# Altium integrated library Microchip Power Management CPU-System Supervisor.IntLib: 428 symbols (part 1 of 12)
Pins are listed as number, name and electrical type; pins without a type are passive.

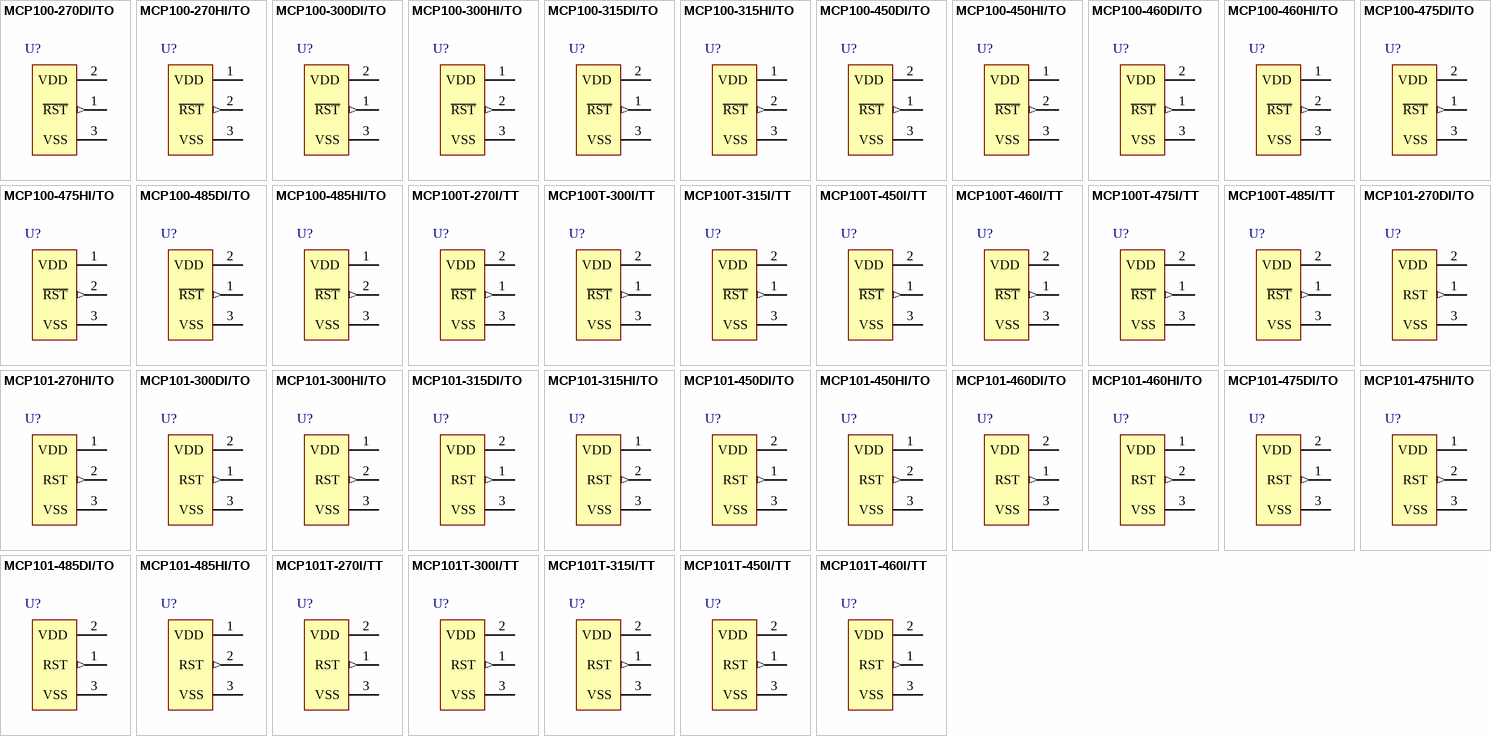
[diagram p0: symbols MCP100-270DI/TO to MCP101T-460I/TT]

## MCP100-270DI/TO
designator U?
Microcontroller Supervisory Circuit with Push-Pull Output, 3-Pin TO-92, Industrial Temperature; Manufacturer: Microchip; PartNumber: MCP100-270DI/TO; DatasheetVersion: revF, 2001; PackageVersion: revBB, Aug-2009; PackageReference: TO-92-TO3; PackageDescription: 3-Lead Plastic Transistor Outline (TO) [TO-92]; Supplier 1: Digi-Key; Supplier Part Number 1: MCP100-270DI/TO-ND; Supplier 2: Newark; Supplier Part Number 2: 19C7123; Supplier 3: Mouser; Supplier Part Number 3: 579-MCP100-270DI/TO; Mounting Technology: Through Hole; ComponentLink1Description: Manufacturer URL; ComponentLink1URL: http://www.microchip.com/; ComponentLink2Description: Datasheet; ComponentLink2URL: http://ww1.microchip.com/downloads/en/DeviceDoc/11187f.pdf; ComponentLink3Description: Package Specification; ComponentLink3URL: http://www.microchip.com/stellent/groups/techpub_sg/documents/packagingspec/en012702.pdf
footprint TO-92-TO3 (TO, Flat Index; 3 In-Line, Axial Leads; Body Dia. 4.8mm; Leads 0.56 x 0.53 mm (max))
pins: 1 ~{RST} (out), 2 VDD (power), 3 VSS (power)

## MCP100-270HI/TO
designator U?
Microcontroller Supervisory Circuit with Push-Pull Output, 3-Pin TO-92, Industrial Temperature; Manufacturer: Microchip; PartNumber: MCP100-270HI/TO; DatasheetVersion: revF, 2001; PackageVersion: revBB, Aug-2009; PackageReference: TO-92-TO3; PackageDescription: 3-Lead Plastic Transistor Outline (TO) [TO-92]; Supplier 1: Digi-Key; Supplier Part Number 1: MCP100-270HI/TO-ND; Supplier 2: Mouser; Supplier Part Number 2: 579-MCP100-270HI/TO; Mounting Technology: Through Hole; ComponentLink1Description: Manufacturer URL; ComponentLink1URL: http://www.microchip.com/; ComponentLink2Description: Datasheet; ComponentLink2URL: http://ww1.microchip.com/downloads/en/DeviceDoc/11187f.pdf; ComponentLink3Description: Package Specification; ComponentLink3URL: http://www.microchip.com/stellent/groups/techpub_sg/documents/packagingspec/en012702.pdf
footprint TO-92-TO3 (TO, Flat Index; 3 In-Line, Axial Leads; Body Dia. 4.8mm; Leads 0.56 x 0.53 mm (max))
pins: 1 VDD (power), 2 ~{RST} (out), 3 VSS (power)

## MCP100-300DI/TO
designator U?
Microcontroller Supervisory Circuit with Push-Pull Output, 3-Pin TO-92, Industrial Temperature; Manufacturer: Microchip; PartNumber: MCP100-300DI/TO; DatasheetVersion: revF, 2001; PackageVersion: revBB, Aug-2009; PackageReference: TO-92-TO3; PackageDescription: 3-Lead Plastic Transistor Outline (TO) [TO-92]; Supplier 1: Digi-Key; Supplier Part Number 1: MCP100-300DI/TO-ND; Supplier 2: Farnell; Supplier Part Number 2: 1332051; Supplier 3: Newark; Supplier Part Number 3: 19C7124; Supplier 4: Mouser; Supplier Part Number 4: 579-MCP100-300DI/TO; Mounting Technology: Through Hole; ComponentLink1Description: Manufacturer URL; ComponentLink1URL: http://www.microchip.com/; ComponentLink2Description: Datasheet; ComponentLink2URL: http://ww1.microchip.com/downloads/en/DeviceDoc/11187f.pdf; ComponentLink3Description: Package Specification; ComponentLink3URL: http://www.microchip.com/stellent/groups/techpub_sg/documents/packagingspec/en012702.pdf
footprint TO-92-TO3 (TO, Flat Index; 3 In-Line, Axial Leads; Body Dia. 4.8mm; Leads 0.56 x 0.53 mm (max))
pins: 1 ~{RST} (out), 2 VDD (power), 3 VSS (power)

## MCP100-300HI/TO
designator U?
Microcontroller Supervisory Circuit with Push-Pull Output, 3-Pin TO-92, Industrial Temperature; Manufacturer: Microchip; PartNumber: MCP100-300HI/TO; DatasheetVersion: revF, 2001; PackageVersion: revBB, Aug-2009; PackageReference: TO-92-TO3; PackageDescription: 3-Lead Plastic Transistor Outline (TO) [TO-92]; Supplier 1: Digi-Key; Supplier Part Number 1: MCP100-300HI/TO-ND; Supplier 2: Mouser; Supplier Part Number 2: 579-MCP100-300HI/TO; Mounting Technology: Through Hole; ComponentLink1Description: Manufacturer URL; ComponentLink1URL: http://www.microchip.com/; ComponentLink2Description: Datasheet; ComponentLink2URL: http://ww1.microchip.com/downloads/en/DeviceDoc/11187f.pdf; ComponentLink3Description: Package Specification; ComponentLink3URL: http://www.microchip.com/stellent/groups/techpub_sg/documents/packagingspec/en012702.pdf
footprint TO-92-TO3 (TO, Flat Index; 3 In-Line, Axial Leads; Body Dia. 4.8mm; Leads 0.56 x 0.53 mm (max))
pins: 1 VDD (power), 2 ~{RST} (out), 3 VSS (power)

## MCP100-315DI/TO
designator U?
Microcontroller Supervisory Circuit with Push-Pull Output, 3-Pin TO-92, Industrial Temperature; Manufacturer: Microchip; PartNumber: MCP100-315DI/TO; DatasheetVersion: revF, 2001; PackageVersion: revBB, Aug-2009; PackageReference: TO-92-TO3; PackageDescription: 3-Lead Plastic Transistor Outline (TO) [TO-92]; Supplier 1: Digi-Key; Supplier Part Number 1: MCP100-315DI/TO-ND; Supplier 2: Farnell; Supplier Part Number 2: 1212673; Supplier 3: Newark; Supplier Part Number 3: 19C7125; Supplier 4: Mouser; Supplier Part Number 4: 579-MCP100-315DI/TO; Mounting Technology: Through Hole; ComponentLink1Description: Manufacturer URL; ComponentLink1URL: http://www.microchip.com/; ComponentLink2Description: Datasheet; ComponentLink2URL: http://ww1.microchip.com/downloads/en/DeviceDoc/11187f.pdf; ComponentLink3Description: Package Specification; ComponentLink3URL: http://www.microchip.com/stellent/groups/techpub_sg/documents/packagingspec/en012702.pdf
footprint TO-92-TO3 (TO, Flat Index; 3 In-Line, Axial Leads; Body Dia. 4.8mm; Leads 0.56 x 0.53 mm (max))
pins: 1 ~{RST} (out), 2 VDD (power), 3 VSS (power)

## MCP100-315HI/TO
designator U?
Microcontroller Supervisory Circuit with Push-Pull Output, 3-Pin TO-92, Industrial Temperature; Manufacturer: Microchip; PartNumber: MCP100-315HI/TO; DatasheetVersion: revF, 2001; PackageVersion: revBB, Aug-2009; PackageReference: TO-92-TO3; PackageDescription: 3-Lead Plastic Transistor Outline (TO) [TO-92]; Supplier 1: Digi-Key; Supplier Part Number 1: MCP100-315HI/TO-ND; Supplier 2: Mouser; Supplier Part Number 2: 579-MCP100-315HI/TO; Mounting Technology: Through Hole; ComponentLink1Description: Manufacturer URL; ComponentLink1URL: http://www.microchip.com/; ComponentLink2Description: Datasheet; ComponentLink2URL: http://ww1.microchip.com/downloads/en/DeviceDoc/11187f.pdf; ComponentLink3Description: Package Specification; ComponentLink3URL: http://www.microchip.com/stellent/groups/techpub_sg/documents/packagingspec/en012702.pdf
footprint TO-92-TO3 (TO, Flat Index; 3 In-Line, Axial Leads; Body Dia. 4.8mm; Leads 0.56 x 0.53 mm (max))
pins: 1 VDD (power), 2 ~{RST} (out), 3 VSS (power)

## MCP100-450DI/TO
designator U?
Microcontroller Supervisory Circuit with Push-Pull Output, 3-Pin TO-92, Industrial Temperature; Manufacturer: Microchip; PartNumber: MCP100-450DI/TO; DatasheetVersion: revF, 2001; PackageVersion: revBB, Aug-2009; PackageReference: TO-92-TO3; PackageDescription: 3-Lead Plastic Transistor Outline (TO) [TO-92]; Supplier 1: Digi-Key; Supplier Part Number 1: MCP100-450DI/TO-ND; Supplier 2: Farnell; Supplier Part Number 2: 9758330; Supplier 3: Newark; Supplier Part Number 3: 97K4461; Supplier 4: Newark; Supplier Part Number 4: 19C7126; Supplier 5: Mouser; Supplier Part Number 5: 579-MCP100-450DI/TO; Mounting Technology: Through Hole; ComponentLink1Description: Manufacturer URL; ComponentLink1URL: http://www.microchip.com/; ComponentLink2Description: Datasheet; ComponentLink2URL: http://ww1.microchip.com/downloads/en/DeviceDoc/11187f.pdf; ComponentLink3Description: Package Specification; ComponentLink3URL: http://www.microchip.com/stellent/groups/techpub_sg/documents/packagingspec/en012702.pdf
footprint TO-92-TO3 (TO, Flat Index; 3 In-Line, Axial Leads; Body Dia. 4.8mm; Leads 0.56 x 0.53 mm (max))
pins: 1 ~{RST} (out), 2 VDD (power), 3 VSS (power)

## MCP100-450HI/TO
designator U?
Microcontroller Supervisory Circuit with Push-Pull Output, 3-Pin TO-92, Industrial Temperature; Manufacturer: Microchip; PartNumber: MCP100-450HI/TO; DatasheetVersion: revF, 2001; PackageVersion: revBB, Aug-2009; PackageReference: TO-92-TO3; PackageDescription: 3-Lead Plastic Transistor Outline (TO) [TO-92]; Supplier 1: Digi-Key; Supplier Part Number 1: MCP100-450HI/TO-ND; Supplier 2: Farnell; Supplier Part Number 2: 9758348; Supplier 3: Newark; Supplier Part Number 3: 97K4462; Supplier 4: Mouser; Supplier Part Number 4: 579-MCP100-450HI/TO; Mounting Technology: Through Hole; ComponentLink1Description: Manufacturer URL; ComponentLink1URL: http://www.microchip.com/; ComponentLink2Description: Datasheet; ComponentLink2URL: http://ww1.microchip.com/downloads/en/DeviceDoc/11187f.pdf; ComponentLink3Description: Package Specification; ComponentLink3URL: http://www.microchip.com/stellent/groups/techpub_sg/documents/packagingspec/en012702.pdf
footprint TO-92-TO3 (TO, Flat Index; 3 In-Line, Axial Leads; Body Dia. 4.8mm; Leads 0.56 x 0.53 mm (max))
pins: 1 VDD (power), 2 ~{RST} (out), 3 VSS (power)

## MCP100-460DI/TO
designator U?
Microcontroller Supervisory Circuit with Push-Pull Output, 3-Pin TO-92, Industrial Temperature; Manufacturer: Microchip; PartNumber: MCP100-460DI/TO; DatasheetVersion: revF, 2001; PackageVersion: revBB, Aug-2009; PackageReference: TO-92-TO3; PackageDescription: 3-Lead Plastic Transistor Outline (TO) [TO-92]; Supplier 1: Digi-Key; Supplier Part Number 1: MCP100-460DI/TO-ND; Supplier 2: Farnell; Supplier Part Number 2: 1863900; Supplier 3: Newark; Supplier Part Number 3: 96K3687; Supplier 4: Mouser; Supplier Part Number 4: 579-MCP100-460DI/TO; Mounting Technology: Through Hole; ComponentLink1Description: Manufacturer URL; ComponentLink1URL: http://www.microchip.com/; ComponentLink2Description: Datasheet; ComponentLink2URL: http://ww1.microchip.com/downloads/en/DeviceDoc/11187f.pdf; ComponentLink3Description: Package Specification; ComponentLink3URL: http://www.microchip.com/stellent/groups/techpub_sg/documents/packagingspec/en012702.pdf
footprint TO-92-TO3 (TO, Flat Index; 3 In-Line, Axial Leads; Body Dia. 4.8mm; Leads 0.56 x 0.53 mm (max))
pins: 1 ~{RST} (out), 2 VDD (power), 3 VSS (power)

## MCP100-460HI/TO
designator U?
Microcontroller Supervisory Circuit with Push-Pull Output, 3-Pin TO-92, Industrial Temperature; Manufacturer: Microchip; PartNumber: MCP100-460HI/TO; DatasheetVersion: revF, 2001; PackageVersion: revBB, Aug-2009; PackageReference: TO-92-TO3; PackageDescription: 3-Lead Plastic Transistor Outline (TO) [TO-92]; Supplier 1: Digi-Key; Supplier Part Number 1: MCP100-460HI/TO-ND; Supplier 2: Mouser; Supplier Part Number 2: 579-MCP100-460HI/TO; Mounting Technology: Through Hole; ComponentLink1Description: Manufacturer URL; ComponentLink1URL: http://www.microchip.com/; ComponentLink2Description: Datasheet; ComponentLink2URL: http://ww1.microchip.com/downloads/en/DeviceDoc/11187f.pdf; ComponentLink3Description: Package Specification; ComponentLink3URL: http://www.microchip.com/stellent/groups/techpub_sg/documents/packagingspec/en012702.pdf
footprint TO-92-TO3 (TO, Flat Index; 3 In-Line, Axial Leads; Body Dia. 4.8mm; Leads 0.56 x 0.53 mm (max))
pins: 1 VDD (power), 2 ~{RST} (out), 3 VSS (power)

## MCP100-475DI/TO
designator U?
Microcontroller Supervisory Circuit with Push-Pull Output, 3-Pin TO-92, Industrial Temperature; Manufacturer: Microchip; PartNumber: MCP100-475DI/TO; DatasheetVersion: revF, 2001; PackageVersion: revBB, Aug-2009; PackageReference: TO-92-TO3; PackageDescription: 3-Lead Plastic Transistor Outline (TO) [TO-92]; Supplier 1: Digi-Key; Supplier Part Number 1: MCP100-475DI/TO-ND; Supplier 2: Farnell; Supplier Part Number 2: 1084253; Supplier 3: Newark; Supplier Part Number 3: 19C7127; Supplier 4: Mouser; Supplier Part Number 4: 579-MCP100-475DI/TO; Mounting Technology: Through Hole; ComponentLink1Description: Manufacturer URL; ComponentLink1URL: http://www.microchip.com/; ComponentLink2Description: Datasheet; ComponentLink2URL: http://ww1.microchip.com/downloads/en/DeviceDoc/11187f.pdf; ComponentLink3Description: Package Specification; ComponentLink3URL: http://www.microchip.com/stellent/groups/techpub_sg/documents/packagingspec/en012702.pdf
footprint TO-92-TO3 (TO, Flat Index; 3 In-Line, Axial Leads; Body Dia. 4.8mm; Leads 0.56 x 0.53 mm (max))
pins: 1 ~{RST} (out), 2 VDD (power), 3 VSS (power)

## MCP100-475HI/TO
designator U?
Microcontroller Supervisory Circuit with Push-Pull Output, 3-Pin TO-92, Industrial Temperature; Manufacturer: Microchip; PartNumber: MCP100-475HI/TO; DatasheetVersion: revF, 2001; PackageVersion: revBB, Aug-2009; PackageReference: TO-92-TO3; PackageDescription: 3-Lead Plastic Transistor Outline (TO) [TO-92]; Supplier 1: Digi-Key; Supplier Part Number 1: MCP100-475HI/TO-ND; Supplier 2: Farnell; Supplier Part Number 2: 9758356; Supplier 3: Newark; Supplier Part Number 3: 97K4464; Supplier 4: Mouser; Supplier Part Number 4: 579-MCP100-475HI/TO; Mounting Technology: Through Hole; ComponentLink1Description: Manufacturer URL; ComponentLink1URL: http://www.microchip.com/; ComponentLink2Description: Datasheet; ComponentLink2URL: http://ww1.microchip.com/downloads/en/DeviceDoc/11187f.pdf; ComponentLink3Description: Package Specification; ComponentLink3URL: http://www.microchip.com/stellent/groups/techpub_sg/documents/packagingspec/en012702.pdf
footprint TO-92-TO3 (TO, Flat Index; 3 In-Line, Axial Leads; Body Dia. 4.8mm; Leads 0.56 x 0.53 mm (max))
pins: 1 VDD (power), 2 ~{RST} (out), 3 VSS (power)

## MCP100-485DI/TO
designator U?
Microcontroller Supervisory Circuit with Push-Pull Output, 3-Pin TO-92, Industrial Temperature; Manufacturer: Microchip; PartNumber: MCP100-485DI/TO; DatasheetVersion: revF, 2001; PackageVersion: revBB, Aug-2009; PackageReference: TO-92-TO3; PackageDescription: 3-Lead Plastic Transistor Outline (TO) [TO-92]; Supplier 1: Digi-Key; Supplier Part Number 1: MCP100-485DI/TO-ND; Supplier 2: Farnell; Supplier Part Number 2: 1863901; Supplier 3: Newark; Supplier Part Number 3: 23C2761; Supplier 4: Mouser; Supplier Part Number 4: 579-MCP100-485DI/TO; Mounting Technology: Through Hole; ComponentLink1Description: Manufacturer URL; ComponentLink1URL: http://www.microchip.com/; ComponentLink2Description: Datasheet; ComponentLink2URL: http://ww1.microchip.com/downloads/en/DeviceDoc/11187f.pdf; ComponentLink3Description: Package Specification; ComponentLink3URL: http://www.microchip.com/stellent/groups/techpub_sg/documents/packagingspec/en012702.pdf
footprint TO-92-TO3 (TO, Flat Index; 3 In-Line, Axial Leads; Body Dia. 4.8mm; Leads 0.56 x 0.53 mm (max))
pins: 1 ~{RST} (out), 2 VDD (power), 3 VSS (power)

## MCP100-485HI/TO
designator U?
Microcontroller Supervisory Circuit with Push-Pull Output, 3-Pin TO-92, Industrial Temperature; Manufacturer: Microchip; PartNumber: MCP100-485HI/TO; DatasheetVersion: revF, 2001; PackageVersion: revBB, Aug-2009; PackageReference: TO-92-TO3; PackageDescription: 3-Lead Plastic Transistor Outline (TO) [TO-92]; Supplier 1: Digi-Key; Supplier Part Number 1: MCP100-485HI/TO-ND; Supplier 2: Mouser; Supplier Part Number 2: 579-MCP100-485HI/TO; Mounting Technology: Through Hole; ComponentLink1Description: Manufacturer URL; ComponentLink1URL: http://www.microchip.com/; ComponentLink2Description: Datasheet; ComponentLink2URL: http://ww1.microchip.com/downloads/en/DeviceDoc/11187f.pdf; ComponentLink3Description: Package Specification; ComponentLink3URL: http://www.microchip.com/stellent/groups/techpub_sg/documents/packagingspec/en012702.pdf
footprint TO-92-TO3 (TO, Flat Index; 3 In-Line, Axial Leads; Body Dia. 4.8mm; Leads 0.56 x 0.53 mm (max))
pins: 1 VDD (power), 2 ~{RST} (out), 3 VSS (power)

## MCP100T-270I/TT
designator U?
Microcontroller Supervisory Circuit with Push-Pull Output, 3-Pin SOT-23, Industrial Temperature, Tape and Reel; Manufacturer: Microchip; PartNumber: MCP100T-270I/TT; DatasheetVersion: revF, 2001; PackageVersion: revBB, Aug-2009; PackageReference: SOT-23-TT3; PackageDescription: 3-Lead Plastic Small Outline Transistor (TT) [SOT-23]; Supplier 1: Digi-Key; Supplier Part Number 1: MCP100T-270I/TTTR-ND; Supplier 2: Digi-Key; Supplier Part Number 2: MCP100T-270I/TTCT-ND; Supplier 3: Digi-Key; Supplier Part Number 3: MCP100T-270I/TTDKR-ND; Supplier 4: Farnell; Supplier Part Number 4: 1851859RL; Supplier 5: Farnell; Supplier Part Number 5: 1851859; Supplier 6: Newark; Supplier Part Number 6: 74K5373; Supplier 7: Mouser; Supplier Part Number 7: 579-MCP100T-270I/TT; Mounting Technology: Surface Mount; Code_IPC: SOT23-3; ComponentLink1Description: Manufacturer URL; ComponentLink1URL: http://www.microchip.com/; ComponentLink2Description: Datasheet; ComponentLink2URL: http://ww1.microchip.com/downloads/en/DeviceDoc/11187f.pdf; ComponentLink3Description: Package Specification; ComponentLink3URL: http://www.microchip.com/stellent/groups/techpub_sg/documents/packagingspec/en012702.pdf
footprint SOT-23-TT3_N (SOT23, 3-Leads, Body 2.9x1.3mm, Pitch 0.95mm, Lead Span 2.4mm, IPC Medium Density)
footprint SOT-23-TT3_L (SOT23, 3-Leads, Body 2.9x1.3mm, Pitch 0.95mm, Lead Span 2.4mm, IPC High Density)
footprint SOT-23-TT3_M (SOT23, 3-Leads, Body 2.9x1.3mm, Pitch 0.95mm, Lead Span 2.4mm, IPC Low Density)
pins: 1 ~{RST} (out), 2 VDD (power), 3 VSS (power)

## MCP100T-300I/TT
designator U?
Microcontroller Supervisory Circuit with Push-Pull Output, 3-Pin SOT-23, Industrial Temperature, Tape and Reel; Manufacturer: Microchip; PartNumber: MCP100T-300I/TT; DatasheetVersion: revF, 2001; PackageVersion: revBB, Aug-2009; PackageReference: SOT-23-TT3; PackageDescription: 3-Lead Plastic Small Outline Transistor (TT) [SOT-23]; Supplier 1: Digi-Key; Supplier Part Number 1: MCP100T-300I/TTTR-ND; Supplier 2: Digi-Key; Supplier Part Number 2: MCP100T-300I/TTCT-ND; Supplier 3: Digi-Key; Supplier Part Number 3: MCP100T-300I/TTDKR-ND; Supplier 4: Farnell; Supplier Part Number 4: 9758364; Supplier 5: Farnell; Supplier Part Number 5: 9758364RL; Supplier 6: Newark; Supplier Part Number 6: 19C7129; Supplier 7: Mouser; Supplier Part Number 7: 579-MCP100T-300I/TT; Mounting Technology: Surface Mount; Code_IPC: SOT23-3; ComponentLink1Description: Manufacturer URL; ComponentLink1URL: http://www.microchip.com/; ComponentLink2Description: Datasheet; ComponentLink2URL: http://ww1.microchip.com/downloads/en/DeviceDoc/11187f.pdf; ComponentLink3Description: Package Specification; ComponentLink3URL: http://www.microchip.com/stellent/groups/techpub_sg/documents/packagingspec/en012702.pdf
footprint SOT-23-TT3_N (SOT23, 3-Leads, Body 2.9x1.3mm, Pitch 0.95mm, Lead Span 2.4mm, IPC Medium Density)
footprint SOT-23-TT3_L (SOT23, 3-Leads, Body 2.9x1.3mm, Pitch 0.95mm, Lead Span 2.4mm, IPC High Density)
footprint SOT-23-TT3_M (SOT23, 3-Leads, Body 2.9x1.3mm, Pitch 0.95mm, Lead Span 2.4mm, IPC Low Density)
pins: 1 ~{RST} (out), 2 VDD (power), 3 VSS (power)

## MCP100T-315I/TT
designator U?
Microcontroller Supervisory Circuit with Push-Pull Output, 3-Pin SOT-23, Industrial Temperature, Tape and Reel; Manufacturer: Microchip; PartNumber: MCP100T-315I/TT; DatasheetVersion: revF, 2001; PackageVersion: revBB, Aug-2009; PackageReference: SOT-23-TT3; PackageDescription: 3-Lead Plastic Small Outline Transistor (TT) [SOT-23]; Supplier 1: Digi-Key; Supplier Part Number 1: MCP100T-315I/TTTR-ND; Supplier 2: Digi-Key; Supplier Part Number 2: MCP100T-315I/TTCT-ND; Supplier 3: Digi-Key; Supplier Part Number 3: MCP100T-315I/TTDKR-ND; Supplier 4: Farnell; Supplier Part Number 4: 1084255RL; Supplier 5: Farnell; Supplier Part Number 5: 1084255; Supplier 6: Newark; Supplier Part Number 6: 97K4466; Supplier 7: Newark; Supplier Part Number 7: 19C7130; Supplier 8: Mouser; Supplier Part Number 8: 579-MCP100T-315I/TT; Mounting Technology: Surface Mount; Code_IPC: SOT23-3; ComponentLink1Description: Manufacturer URL; ComponentLink1URL: http://www.microchip.com/; ComponentLink2Description: Datasheet; ComponentLink2URL: http://ww1.microchip.com/downloads/en/DeviceDoc/11187f.pdf; ComponentLink3Description: Package Specification; ComponentLink3URL: http://www.microchip.com/stellent/groups/techpub_sg/documents/packagingspec/en012702.pdf
footprint SOT-23-TT3_N (SOT23, 3-Leads, Body 2.9x1.3mm, Pitch 0.95mm, Lead Span 2.4mm, IPC Medium Density)
footprint SOT-23-TT3_L (SOT23, 3-Leads, Body 2.9x1.3mm, Pitch 0.95mm, Lead Span 2.4mm, IPC High Density)
footprint SOT-23-TT3_M (SOT23, 3-Leads, Body 2.9x1.3mm, Pitch 0.95mm, Lead Span 2.4mm, IPC Low Density)
pins: 1 ~{RST} (out), 2 VDD (power), 3 VSS (power)

## MCP100T-450I/TT
designator U?
Microcontroller Supervisory Circuit with Push-Pull Output, 3-Pin SOT-23, Industrial Temperature, Tape and Reel; Manufacturer: Microchip; PartNumber: MCP100T-450I/TT; DatasheetVersion: revF, 2001; PackageVersion: revBB, Aug-2009; PackageReference: SOT-23-TT3; PackageDescription: 3-Lead Plastic Small Outline Transistor (TT) [SOT-23]; Supplier 1: Digi-Key; Supplier Part Number 1: MCP100T-450I/TTTR-ND; Supplier 2: Digi-Key; Supplier Part Number 2: MCP100T-450I/TTCT-ND; Supplier 3: Digi-Key; Supplier Part Number 3: MCP100T-450I/TTDKR-ND; Supplier 4: Farnell; Supplier Part Number 4: 9758372; Supplier 5: Farnell; Supplier Part Number 5: 9758372RL; Supplier 6: Newark; Supplier Part Number 6: 96K3688; Supplier 7: Mouser; Supplier Part Number 7: 579-MCP100T-450I/TT; Mounting Technology: Surface Mount; Code_IPC: SOT23-3; ComponentLink1Description: Manufacturer URL; ComponentLink1URL: http://www.microchip.com/; ComponentLink2Description: Datasheet; ComponentLink2URL: http://ww1.microchip.com/downloads/en/DeviceDoc/11187f.pdf; ComponentLink3Description: Package Specification; ComponentLink3URL: http://www.microchip.com/stellent/groups/techpub_sg/documents/packagingspec/en012702.pdf
footprint SOT-23-TT3_N (SOT23, 3-Leads, Body 2.9x1.3mm, Pitch 0.95mm, Lead Span 2.4mm, IPC Medium Density)
footprint SOT-23-TT3_L (SOT23, 3-Leads, Body 2.9x1.3mm, Pitch 0.95mm, Lead Span 2.4mm, IPC High Density)
footprint SOT-23-TT3_M (SOT23, 3-Leads, Body 2.9x1.3mm, Pitch 0.95mm, Lead Span 2.4mm, IPC Low Density)
pins: 1 ~{RST} (out), 2 VDD (power), 3 VSS (power)

## MCP100T-460I/TT
designator U?
Microcontroller Supervisory Circuit with Push-Pull Output, 3-Pin SOT-23, Industrial Temperature, Tape and Reel; Manufacturer: Microchip; PartNumber: MCP100T-460I/TT; DatasheetVersion: revF, 2001; PackageVersion: revBB, Aug-2009; PackageReference: SOT-23-TT3; PackageDescription: 3-Lead Plastic Small Outline Transistor (TT) [SOT-23]; Supplier 1: Digi-Key; Supplier Part Number 1: MCP100T-460I/TTTR-ND; Supplier 2: Digi-Key; Supplier Part Number 2: MCP100T-460I/TTCT-ND; Supplier 3: Digi-Key; Supplier Part Number 3: MCP100T-460I/TTDKR-ND; Supplier 4: Farnell; Supplier Part Number 4: 1851861; Supplier 5: Newark; Supplier Part Number 5: 23C2763; Supplier 6: Newark; Supplier Part Number 6: 31T1291; Supplier 7: Mouser; Supplier Part Number 7: 579-MCP100T-460I/TT; Mounting Technology: Surface Mount; Code_IPC: SOT23-3; ComponentLink1Description: Manufacturer URL; ComponentLink1URL: http://www.microchip.com/; ComponentLink2Description: Datasheet; ComponentLink2URL: http://ww1.microchip.com/downloads/en/DeviceDoc/11187f.pdf; ComponentLink3Description: Package Specification; ComponentLink3URL: http://www.microchip.com/stellent/groups/techpub_sg/documents/packagingspec/en012702.pdf
footprint SOT-23-TT3_N (SOT23, 3-Leads, Body 2.9x1.3mm, Pitch 0.95mm, Lead Span 2.4mm, IPC Medium Density)
footprint SOT-23-TT3_L (SOT23, 3-Leads, Body 2.9x1.3mm, Pitch 0.95mm, Lead Span 2.4mm, IPC High Density)
footprint SOT-23-TT3_M (SOT23, 3-Leads, Body 2.9x1.3mm, Pitch 0.95mm, Lead Span 2.4mm, IPC Low Density)
pins: 1 ~{RST} (out), 2 VDD (power), 3 VSS (power)

## MCP100T-475I/TT
designator U?
Microcontroller Supervisory Circuit with Push-Pull Output, 3-Pin SOT-23, Industrial Temperature, Tape and Reel; Manufacturer: Microchip; PartNumber: MCP100T-475I/TT; DatasheetVersion: revF, 2001; PackageVersion: revBB, Aug-2009; PackageReference: SOT-23-TT3; PackageDescription: 3-Lead Plastic Small Outline Transistor (TT) [SOT-23]; Supplier 1: Digi-Key; Supplier Part Number 1: MCP100T-475I/TTTR-ND; Supplier 2: Digi-Key; Supplier Part Number 2: MCP100T-475I/TTCT-ND; Supplier 3: Digi-Key; Supplier Part Number 3: MCP100T-475I/TTDKR-ND; Supplier 4: Farnell; Supplier Part Number 4: 9758380RL; Supplier 5: Farnell; Supplier Part Number 5: 9758380; Supplier 6: Newark; Supplier Part Number 6: 19C7132; Supplier 7: Mouser; Supplier Part Number 7: 579-MCP100T-475I/TT; Mounting Technology: Surface Mount; Code_IPC: SOT23-3; ComponentLink1Description: Manufacturer URL; ComponentLink1URL: http://www.microchip.com/; ComponentLink2Description: Datasheet; ComponentLink2URL: http://ww1.microchip.com/downloads/en/DeviceDoc/11187f.pdf; ComponentLink3Description: Package Specification; ComponentLink3URL: http://www.microchip.com/stellent/groups/techpub_sg/documents/packagingspec/en012702.pdf
footprint SOT-23-TT3_N (SOT23, 3-Leads, Body 2.9x1.3mm, Pitch 0.95mm, Lead Span 2.4mm, IPC Medium Density)
footprint SOT-23-TT3_L (SOT23, 3-Leads, Body 2.9x1.3mm, Pitch 0.95mm, Lead Span 2.4mm, IPC High Density)
footprint SOT-23-TT3_M (SOT23, 3-Leads, Body 2.9x1.3mm, Pitch 0.95mm, Lead Span 2.4mm, IPC Low Density)
pins: 1 ~{RST} (out), 2 VDD (power), 3 VSS (power)

## MCP100T-485I/TT
designator U?
Microcontroller Supervisory Circuit with Push-Pull Output, 3-Pin SOT-23, Industrial Temperature, Tape and Reel; Manufacturer: Microchip; PartNumber: MCP100T-485I/TT; DatasheetVersion: revF, 2001; PackageVersion: revBB, Aug-2009; PackageReference: SOT-23-TT3; PackageDescription: 3-Lead Plastic Small Outline Transistor (TT) [SOT-23]; Supplier 1: Digi-Key; Supplier Part Number 1: MCP100T-485I/TTTR-ND; Supplier 2: Digi-Key; Supplier Part Number 2: MCP100T-485I/TTCT-ND; Supplier 3: Digi-Key; Supplier Part Number 3: MCP100T-485I/TTDKR-ND; Supplier 4: Farnell; Supplier Part Number 4: 1851862; Supplier 5: Farnell; Supplier Part Number 5: 1851862RL; Supplier 6: Newark; Supplier Part Number 6: 23C2764; Supplier 7: Newark; Supplier Part Number 7: 31T1292; Supplier 8: Mouser; Supplier Part Number 8: 579-MCP100T-485I/TT; Mounting Technology: Surface Mount; Code_IPC: SOT23-3; ComponentLink1Description: Manufacturer URL; ComponentLink1URL: http://www.microchip.com/; ComponentLink2Description: Datasheet; ComponentLink2URL: http://ww1.microchip.com/downloads/en/DeviceDoc/11187f.pdf; ComponentLink3Description: Package Specification; ComponentLink3URL: http://www.microchip.com/stellent/groups/techpub_sg/documents/packagingspec/en012702.pdf
footprint SOT-23-TT3_N (SOT23, 3-Leads, Body 2.9x1.3mm, Pitch 0.95mm, Lead Span 2.4mm, IPC Medium Density)
footprint SOT-23-TT3_L (SOT23, 3-Leads, Body 2.9x1.3mm, Pitch 0.95mm, Lead Span 2.4mm, IPC High Density)
footprint SOT-23-TT3_M (SOT23, 3-Leads, Body 2.9x1.3mm, Pitch 0.95mm, Lead Span 2.4mm, IPC Low Density)
pins: 1 ~{RST} (out), 2 VDD (power), 3 VSS (power)

## MCP101-270DI/TO
designator U?
Microcontroller Supervisory Circuit with Push-Pull Output, 3-Pin TO-92, Industrial Temperature; Manufacturer: Microchip; PartNumber: MCP101-270DI/TO; DatasheetVersion: revF, 2001; PackageVersion: revBB, Aug-2009; PackageReference: TO-92-TO3; PackageDescription: 3-Lead Plastic Transistor Outline (TO) [TO-92]; Supplier 1: Digi-Key; Supplier Part Number 1: MCP101-270DI/TO-ND; Supplier 2: Farnell; Supplier Part Number 2: 1851863; Supplier 3: Newark; Supplier Part Number 3: 19C7133; Supplier 4: Mouser; Supplier Part Number 4: 579-MCP101-270DI/TO; Mounting Technology: Through Hole; ComponentLink1Description: Manufacturer URL; ComponentLink1URL: http://www.microchip.com/; ComponentLink2Description: Datasheet; ComponentLink2URL: http://ww1.microchip.com/downloads/en/DeviceDoc/11187f.pdf; ComponentLink3Description: Package Specification; ComponentLink3URL: http://www.microchip.com/stellent/groups/techpub_sg/documents/packagingspec/en012702.pdf
footprint TO-92-TO3 (TO, Flat Index; 3 In-Line, Axial Leads; Body Dia. 4.8mm; Leads 0.56 x 0.53 mm (max))
pins: 1 RST (out), 2 VDD (power), 3 VSS (power)

## MCP101-270HI/TO
designator U?
Microcontroller Supervisory Circuit with Push-Pull Output, 3-Pin TO-92, Industrial Temperature; Manufacturer: Microchip; PartNumber: MCP101-270HI/TO; DatasheetVersion: revF, 2001; PackageVersion: revBB, Aug-2009; PackageReference: TO-92-TO3; PackageDescription: 3-Lead Plastic Transistor Outline (TO) [TO-92]; Supplier 1: Digi-Key; Supplier Part Number 1: MCP101-270HI/TO-ND; Supplier 2: Mouser; Supplier Part Number 2: 579-MCP101-270HI/TO; Mounting Technology: Through Hole; ComponentLink1Description: Manufacturer URL; ComponentLink1URL: http://www.microchip.com/; ComponentLink2Description: Datasheet; ComponentLink2URL: http://ww1.microchip.com/downloads/en/DeviceDoc/11187f.pdf; ComponentLink3Description: Package Specification; ComponentLink3URL: http://www.microchip.com/stellent/groups/techpub_sg/documents/packagingspec/en012702.pdf
footprint TO-92-TO3 (TO, Flat Index; 3 In-Line, Axial Leads; Body Dia. 4.8mm; Leads 0.56 x 0.53 mm (max))
pins: 1 VDD (power), 2 RST (out), 3 VSS (power)

## MCP101-300DI/TO
designator U?
Microcontroller Supervisory Circuit with Push-Pull Output, 3-Pin TO-92, Industrial Temperature; Manufacturer: Microchip; PartNumber: MCP101-300DI/TO; DatasheetVersion: revF, 2001; PackageVersion: revBB, Aug-2009; PackageReference: TO-92-TO3; PackageDescription: 3-Lead Plastic Transistor Outline (TO) [TO-92]; Supplier 1: Digi-Key; Supplier Part Number 1: MCP101-300DI/TO-ND; Supplier 2: Farnell; Supplier Part Number 2: 1332052; Supplier 3: Newark; Supplier Part Number 3: 19C7134; Supplier 4: Mouser; Supplier Part Number 4: 579-MCP101-300DI/TO; Mounting Technology: Through Hole; ComponentLink1Description: Manufacturer URL; ComponentLink1URL: http://www.microchip.com/; ComponentLink2Description: Datasheet; ComponentLink2URL: http://ww1.microchip.com/downloads/en/DeviceDoc/11187f.pdf; ComponentLink3Description: Package Specification; ComponentLink3URL: http://www.microchip.com/stellent/groups/techpub_sg/documents/packagingspec/en012702.pdf
footprint TO-92-TO3 (TO, Flat Index; 3 In-Line, Axial Leads; Body Dia. 4.8mm; Leads 0.56 x 0.53 mm (max))
pins: 1 RST (out), 2 VDD (power), 3 VSS (power)

## MCP101-300HI/TO
designator U?
Microcontroller Supervisory Circuit with Push-Pull Output, 3-Pin TO-92, Industrial Temperature; Manufacturer: Microchip; PartNumber: MCP101-300HI/TO; DatasheetVersion: revF, 2001; PackageVersion: revBB, Aug-2009; PackageReference: TO-92-TO3; PackageDescription: 3-Lead Plastic Transistor Outline (TO) [TO-92]; Supplier 1: Digi-Key; Supplier Part Number 1: MCP101-300HI/TO-ND; Supplier 2: Mouser; Supplier Part Number 2: 579-MCP101-300HI/TO; Mounting Technology: Through Hole; ComponentLink1Description: Manufacturer URL; ComponentLink1URL: http://www.microchip.com/; ComponentLink2Description: Datasheet; ComponentLink2URL: http://ww1.microchip.com/downloads/en/DeviceDoc/11187f.pdf; ComponentLink3Description: Package Specification; ComponentLink3URL: http://www.microchip.com/stellent/groups/techpub_sg/documents/packagingspec/en012702.pdf
footprint TO-92-TO3 (TO, Flat Index; 3 In-Line, Axial Leads; Body Dia. 4.8mm; Leads 0.56 x 0.53 mm (max))
pins: 1 VDD (power), 2 RST (out), 3 VSS (power)

## MCP101-315DI/TO
designator U?
Microcontroller Supervisory Circuit with Push-Pull Output, 3-Pin TO-92, Industrial Temperature; Manufacturer: Microchip; PartNumber: MCP101-315DI/TO; DatasheetVersion: revF, 2001; PackageVersion: revBB, Aug-2009; PackageReference: TO-92-TO3; PackageDescription: 3-Lead Plastic Transistor Outline (TO) [TO-92]; Supplier 1: Digi-Key; Supplier Part Number 1: MCP101-315DI/TO-ND; Supplier 2: Mouser; Supplier Part Number 2: 579-MCP101-315DI/TO; Mounting Technology: Through Hole; ComponentLink1Description: Manufacturer URL; ComponentLink1URL: http://www.microchip.com/; ComponentLink2Description: Datasheet; ComponentLink2URL: http://ww1.microchip.com/downloads/en/DeviceDoc/11187f.pdf; ComponentLink3Description: Package Specification; ComponentLink3URL: http://www.microchip.com/stellent/groups/techpub_sg/documents/packagingspec/en012702.pdf
footprint TO-92-TO3 (TO, Flat Index; 3 In-Line, Axial Leads; Body Dia. 4.8mm; Leads 0.56 x 0.53 mm (max))
pins: 1 RST (out), 2 VDD (power), 3 VSS (power)

## MCP101-315HI/TO
designator U?
Microcontroller Supervisory Circuit with Push-Pull Output, 3-Pin TO-92, Industrial Temperature; Manufacturer: Microchip; PartNumber: MCP101-315HI/TO; DatasheetVersion: revF, 2001; PackageVersion: revBB, Aug-2009; PackageReference: TO-92-TO3; PackageDescription: 3-Lead Plastic Transistor Outline (TO) [TO-92]; Supplier 1: Digi-Key; Supplier Part Number 1: MCP101-315HI/TO-ND; Supplier 2: Newark; Supplier Part Number 2: 23C2767; Supplier 3: Mouser; Supplier Part Number 3: 579-MCP101-315HI/TO; Mounting Technology: Through Hole; ComponentLink1Description: Manufacturer URL; ComponentLink1URL: http://www.microchip.com/; ComponentLink2Description: Datasheet; ComponentLink2URL: http://ww1.microchip.com/downloads/en/DeviceDoc/11187f.pdf; ComponentLink3Description: Package Specification; ComponentLink3URL: http://www.microchip.com/stellent/groups/techpub_sg/documents/packagingspec/en012702.pdf
footprint TO-92-TO3 (TO, Flat Index; 3 In-Line, Axial Leads; Body Dia. 4.8mm; Leads 0.56 x 0.53 mm (max))
pins: 1 VDD (power), 2 RST (out), 3 VSS (power)

## MCP101-450DI/TO
designator U?
Microcontroller Supervisory Circuit with Push-Pull Output, 3-Pin TO-92, Industrial Temperature; Manufacturer: Microchip; PartNumber: MCP101-450DI/TO; DatasheetVersion: revF, 2001; PackageVersion: revBB, Aug-2009; PackageReference: TO-92-TO3; PackageDescription: 3-Lead Plastic Transistor Outline (TO) [TO-92]; Supplier 1: Digi-Key; Supplier Part Number 1: MCP101-450DI/TO-ND; Supplier 2: Farnell; Supplier Part Number 2: 9758399; Supplier 3: Newark; Supplier Part Number 3: 19C7136; Supplier 4: Mouser; Supplier Part Number 4: 579-MCP101-450DI/TO; Mounting Technology: Through Hole; ComponentLink1Description: Manufacturer URL; ComponentLink1URL: http://www.microchip.com/; ComponentLink2Description: Datasheet; ComponentLink2URL: http://ww1.microchip.com/downloads/en/DeviceDoc/11187f.pdf; ComponentLink3Description: Package Specification; ComponentLink3URL: http://www.microchip.com/stellent/groups/techpub_sg/documents/packagingspec/en012702.pdf
footprint TO-92-TO3 (TO, Flat Index; 3 In-Line, Axial Leads; Body Dia. 4.8mm; Leads 0.56 x 0.53 mm (max))
pins: 1 RST (out), 2 VDD (power), 3 VSS (power)

## MCP101-450HI/TO
designator U?
Microcontroller Supervisory Circuit with Push-Pull Output, 3-Pin TO-92, Industrial Temperature; Manufacturer: Microchip; PartNumber: MCP101-450HI/TO; DatasheetVersion: revF, 2001; PackageVersion: revBB, Aug-2009; PackageReference: TO-92-TO3; PackageDescription: 3-Lead Plastic Transistor Outline (TO) [TO-92]; Supplier 1: Digi-Key; Supplier Part Number 1: MCP101-450HI/TO-ND; Supplier 2: Mouser; Supplier Part Number 2: 579-MCP101-450HI/TO; Mounting Technology: Through Hole; ComponentLink1Description: Manufacturer URL; ComponentLink1URL: http://www.microchip.com/; ComponentLink2Description: Datasheet; ComponentLink2URL: http://ww1.microchip.com/downloads/en/DeviceDoc/11187f.pdf; ComponentLink3Description: Package Specification; ComponentLink3URL: http://www.microchip.com/stellent/groups/techpub_sg/documents/packagingspec/en012702.pdf
footprint TO-92-TO3 (TO, Flat Index; 3 In-Line, Axial Leads; Body Dia. 4.8mm; Leads 0.56 x 0.53 mm (max))
pins: 1 VDD (power), 2 RST (out), 3 VSS (power)

## MCP101-460DI/TO
designator U?
Microcontroller Supervisory Circuit with Push-Pull Output, 3-Pin TO-92, Industrial Temperature; Manufacturer: Microchip; PartNumber: MCP101-460DI/TO; DatasheetVersion: revF, 2001; PackageVersion: revBB, Aug-2009; PackageReference: TO-92-TO3; PackageDescription: 3-Lead Plastic Transistor Outline (TO) [TO-92]; Supplier 1: Digi-Key; Supplier Part Number 1: MCP101-460DI/TO-ND; Supplier 2: Farnell; Supplier Part Number 2: 1851864; Supplier 3: Newark; Supplier Part Number 3: 23C2769; Supplier 4: Mouser; Supplier Part Number 4: 579-MCP101-460DI/TO; Mounting Technology: Through Hole; ComponentLink1Description: Manufacturer URL; ComponentLink1URL: http://www.microchip.com/; ComponentLink2Description: Datasheet; ComponentLink2URL: http://ww1.microchip.com/downloads/en/DeviceDoc/11187f.pdf; ComponentLink3Description: Package Specification; ComponentLink3URL: http://www.microchip.com/stellent/groups/techpub_sg/documents/packagingspec/en012702.pdf
footprint TO-92-TO3 (TO, Flat Index; 3 In-Line, Axial Leads; Body Dia. 4.8mm; Leads 0.56 x 0.53 mm (max))
pins: 1 RST (out), 2 VDD (power), 3 VSS (power)

## MCP101-460HI/TO
designator U?
Microcontroller Supervisory Circuit with Push-Pull Output, 3-Pin TO-92, Industrial Temperature; Manufacturer: Microchip; PartNumber: MCP101-460HI/TO; DatasheetVersion: revF, 2001; PackageVersion: revBB, Aug-2009; PackageReference: TO-92-TO3; PackageDescription: 3-Lead Plastic Transistor Outline (TO) [TO-92]; Supplier 1: Digi-Key; Supplier Part Number 1: MCP101-460HI/TO-ND; Supplier 2: Mouser; Supplier Part Number 2: 579-MCP101-460HI/TO; Mounting Technology: Through Hole; ComponentLink1Description: Manufacturer URL; ComponentLink1URL: http://www.microchip.com/; ComponentLink2Description: Datasheet; ComponentLink2URL: http://ww1.microchip.com/downloads/en/DeviceDoc/11187f.pdf; ComponentLink3Description: Package Specification; ComponentLink3URL: http://www.microchip.com/stellent/groups/techpub_sg/documents/packagingspec/en012702.pdf
footprint TO-92-TO3 (TO, Flat Index; 3 In-Line, Axial Leads; Body Dia. 4.8mm; Leads 0.56 x 0.53 mm (max))
pins: 1 VDD (power), 2 RST (out), 3 VSS (power)

## MCP101-475DI/TO
designator U?
Microcontroller Supervisory Circuit with Push-Pull Output, 3-Pin TO-92, Industrial Temperature; Manufacturer: Microchip; PartNumber: MCP101-475DI/TO; DatasheetVersion: revF, 2001; PackageVersion: revBB, Aug-2009; PackageReference: TO-92-TO3; PackageDescription: 3-Lead Plastic Transistor Outline (TO) [TO-92]; Supplier 1: Digi-Key; Supplier Part Number 1: MCP101-475DI/TO-ND; Supplier 2: Farnell; Supplier Part Number 2: 1137304; Supplier 3: Newark; Supplier Part Number 3: 19C7137; Supplier 4: Mouser; Supplier Part Number 4: 579-MCP101-475DI/TO; Mounting Technology: Through Hole; ComponentLink1Description: Manufacturer URL; ComponentLink1URL: http://www.microchip.com/; ComponentLink2Description: Datasheet; ComponentLink2URL: http://ww1.microchip.com/downloads/en/DeviceDoc/11187f.pdf; ComponentLink3Description: Package Specification; ComponentLink3URL: http://www.microchip.com/stellent/groups/techpub_sg/documents/packagingspec/en012702.pdf
footprint TO-92-TO3 (TO, Flat Index; 3 In-Line, Axial Leads; Body Dia. 4.8mm; Leads 0.56 x 0.53 mm (max))
pins: 1 RST (out), 2 VDD (power), 3 VSS (power)

## MCP101-475HI/TO
designator U?
Microcontroller Supervisory Circuit with Push-Pull Output, 3-Pin TO-92, Industrial Temperature; Manufacturer: Microchip; PartNumber: MCP101-475HI/TO; DatasheetVersion: revF, 2001; PackageVersion: revBB, Aug-2009; PackageReference: TO-92-TO3; PackageDescription: 3-Lead Plastic Transistor Outline (TO) [TO-92]; Supplier 1: Digi-Key; Supplier Part Number 1: MCP101-475HI/TO-ND; Supplier 2: Farnell; Supplier Part Number 2: 1212674; Supplier 3: Newark; Supplier Part Number 3: 01M8280; Supplier 4: Newark; Supplier Part Number 4: 23C2771; Supplier 5: Mouser; Supplier Part Number 5: 579-MCP101-475HI/TO; Mounting Technology: Through Hole; ComponentLink1Description: Manufacturer URL; ComponentLink1URL: http://www.microchip.com/; ComponentLink2Description: Datasheet; ComponentLink2URL: http://ww1.microchip.com/downloads/en/DeviceDoc/11187f.pdf; ComponentLink3Description: Package Specification; ComponentLink3URL: http://www.microchip.com/stellent/groups/techpub_sg/documents/packagingspec/en012702.pdf
footprint TO-92-TO3 (TO, Flat Index; 3 In-Line, Axial Leads; Body Dia. 4.8mm; Leads 0.56 x 0.53 mm (max))
pins: 1 VDD (power), 2 RST (out), 3 VSS (power)

## MCP101-485DI/TO
designator U?
Microcontroller Supervisory Circuit with Push-Pull Output, 3-Pin TO-92, Industrial Temperature; Manufacturer: Microchip; PartNumber: MCP101-485DI/TO; DatasheetVersion: revF, 2001; PackageVersion: revBB, Aug-2009; PackageReference: TO-92-TO3; PackageDescription: 3-Lead Plastic Transistor Outline (TO) [TO-92]; Supplier 1: Digi-Key; Supplier Part Number 1: MCP101-485DI/TO-ND; Supplier 2: Farnell; Supplier Part Number 2: 1851865; Supplier 3: Newark; Supplier Part Number 3: 23C2772; Supplier 4: Mouser; Supplier Part Number 4: 579-MCP101-485DI/TO; Mounting Technology: Through Hole; ComponentLink1Description: Manufacturer URL; ComponentLink1URL: http://www.microchip.com/; ComponentLink2Description: Datasheet; ComponentLink2URL: http://ww1.microchip.com/downloads/en/DeviceDoc/11187f.pdf; ComponentLink3Description: Package Specification; ComponentLink3URL: http://www.microchip.com/stellent/groups/techpub_sg/documents/packagingspec/en012702.pdf
footprint TO-92-TO3 (TO, Flat Index; 3 In-Line, Axial Leads; Body Dia. 4.8mm; Leads 0.56 x 0.53 mm (max))
pins: 1 RST (out), 2 VDD (power), 3 VSS (power)

## MCP101-485HI/TO
designator U?
Microcontroller Supervisory Circuit with Push-Pull Output, 3-Pin TO-92, Industrial Temperature; Manufacturer: Microchip; PartNumber: MCP101-485HI/TO; DatasheetVersion: revF, 2001; PackageVersion: revBB, Aug-2009; PackageReference: TO-92-TO3; PackageDescription: 3-Lead Plastic Transistor Outline (TO) [TO-92]; Supplier 1: Digi-Key; Supplier Part Number 1: MCP101-485HI/TO-ND; Supplier 2: Mouser; Supplier Part Number 2: 579-MCP101-485HI/TO; Mounting Technology: Through Hole; ComponentLink1Description: Manufacturer URL; ComponentLink1URL: http://www.microchip.com/; ComponentLink2Description: Datasheet; ComponentLink2URL: http://ww1.microchip.com/downloads/en/DeviceDoc/11187f.pdf; ComponentLink3Description: Package Specification; ComponentLink3URL: http://www.microchip.com/stellent/groups/techpub_sg/documents/packagingspec/en012702.pdf
footprint TO-92-TO3 (TO, Flat Index; 3 In-Line, Axial Leads; Body Dia. 4.8mm; Leads 0.56 x 0.53 mm (max))
pins: 1 VDD (power), 2 RST (out), 3 VSS (power)

## MCP101T-270I/TT
designator U?
Microcontroller Supervisory Circuit with Push-Pull Output, 3-Pin SOT-23, Industrial Temperature, Tape and Reel; Manufacturer: Microchip; PartNumber: MCP101T-270I/TT; DatasheetVersion: revF, 2001; PackageVersion: revBB, Aug-2009; PackageReference: SOT-23-TT3; PackageDescription: 3-Lead Plastic Small Outline Transistor (TT) [SOT-23]; Supplier 1: Digi-Key; Supplier Part Number 1: MCP101T-270I/TT-ND; Supplier 2: Farnell; Supplier Part Number 2: 1851866; Supplier 3: Farnell; Supplier Part Number 3: 1851866RL; Supplier 4: Newark; Supplier Part Number 4: 19C7138; Supplier 5: Mouser; Supplier Part Number 5: 579-MCP101T-270I/TT; Mounting Technology: Surface Mount; Code_IPC: SOT23-3; ComponentLink1Description: Manufacturer URL; ComponentLink1URL: http://www.microchip.com/; ComponentLink2Description: Datasheet; ComponentLink2URL: http://ww1.microchip.com/downloads/en/DeviceDoc/11187f.pdf; ComponentLink3Description: Package Specification; ComponentLink3URL: http://www.microchip.com/stellent/groups/techpub_sg/documents/packagingspec/en012702.pdf
footprint SOT-23-TT3_N (SOT23, 3-Leads, Body 2.9x1.3mm, Pitch 0.95mm, Lead Span 2.4mm, IPC Medium Density)
footprint SOT-23-TT3_L (SOT23, 3-Leads, Body 2.9x1.3mm, Pitch 0.95mm, Lead Span 2.4mm, IPC High Density)
footprint SOT-23-TT3_M (SOT23, 3-Leads, Body 2.9x1.3mm, Pitch 0.95mm, Lead Span 2.4mm, IPC Low Density)
pins: 1 RST (out), 2 VDD (power), 3 VSS (power)

## MCP101T-300I/TT
designator U?
Microcontroller Supervisory Circuit with Push-Pull Output, 3-Pin SOT-23, Industrial Temperature, Tape and Reel; Manufacturer: Microchip; PartNumber: MCP101T-300I/TT; DatasheetVersion: revF, 2001; PackageVersion: revBB, Aug-2009; PackageReference: SOT-23-TT3; PackageDescription: 3-Lead Plastic Small Outline Transistor (TT) [SOT-23]; Supplier 1: Digi-Key; Supplier Part Number 1: MCP101T-300I/TT-ND; Supplier 2: Newark; Supplier Part Number 2: 19C7139; Supplier 3: Mouser; Supplier Part Number 3: 579-MCP101T-300I/TT; Mounting Technology: Surface Mount; Code_IPC: SOT23-3; ComponentLink1Description: Manufacturer URL; ComponentLink1URL: http://www.microchip.com/; ComponentLink2Description: Datasheet; ComponentLink2URL: http://ww1.microchip.com/downloads/en/DeviceDoc/11187f.pdf; ComponentLink3Description: Package Specification; ComponentLink3URL: http://www.microchip.com/stellent/groups/techpub_sg/documents/packagingspec/en012702.pdf
footprint SOT-23-TT3_N (SOT23, 3-Leads, Body 2.9x1.3mm, Pitch 0.95mm, Lead Span 2.4mm, IPC Medium Density)
footprint SOT-23-TT3_L (SOT23, 3-Leads, Body 2.9x1.3mm, Pitch 0.95mm, Lead Span 2.4mm, IPC High Density)
footprint SOT-23-TT3_M (SOT23, 3-Leads, Body 2.9x1.3mm, Pitch 0.95mm, Lead Span 2.4mm, IPC Low Density)
pins: 1 RST (out), 2 VDD (power), 3 VSS (power)

## MCP101T-315I/TT
designator U?
Microcontroller Supervisory Circuit with Push-Pull Output, 3-Pin SOT-23, Industrial Temperature, Tape and Reel; Manufacturer: Microchip; PartNumber: MCP101T-315I/TT; DatasheetVersion: revF, 2001; PackageVersion: revBB, Aug-2009; PackageReference: SOT-23-TT3; PackageDescription: 3-Lead Plastic Small Outline Transistor (TT) [SOT-23]; Supplier 1: Digi-Key; Supplier Part Number 1: MCP101T-315I/TT-ND; Supplier 2: Farnell; Supplier Part Number 2: 9758402; Supplier 3: Farnell; Supplier Part Number 3: 9758402RL; Supplier 4: Newark; Supplier Part Number 4: 97K4470; Supplier 5: Mouser; Supplier Part Number 5: 579-MCP101T-315I/TT; Mounting Technology: Surface Mount; Code_IPC: SOT23-3; ComponentLink1Description: Manufacturer URL; ComponentLink1URL: http://www.microchip.com/; ComponentLink2Description: Datasheet; ComponentLink2URL: http://ww1.microchip.com/downloads/en/DeviceDoc/11187f.pdf; ComponentLink3Description: Package Specification; ComponentLink3URL: http://www.microchip.com/stellent/groups/techpub_sg/documents/packagingspec/en012702.pdf
footprint SOT-23-TT3_N (SOT23, 3-Leads, Body 2.9x1.3mm, Pitch 0.95mm, Lead Span 2.4mm, IPC Medium Density)
footprint SOT-23-TT3_L (SOT23, 3-Leads, Body 2.9x1.3mm, Pitch 0.95mm, Lead Span 2.4mm, IPC High Density)
footprint SOT-23-TT3_M (SOT23, 3-Leads, Body 2.9x1.3mm, Pitch 0.95mm, Lead Span 2.4mm, IPC Low Density)
pins: 1 RST (out), 2 VDD (power), 3 VSS (power)

## MCP101T-450I/TT
designator U?
Microcontroller Supervisory Circuit with Push-Pull Output, 3-Pin SOT-23, Industrial Temperature, Tape and Reel; Manufacturer: Microchip; PartNumber: MCP101T-450I/TT; DatasheetVersion: revF, 2001; PackageVersion: revBB, Aug-2009; PackageReference: SOT-23-TT3; PackageDescription: 3-Lead Plastic Small Outline Transistor (TT) [SOT-23]; Supplier 1: Digi-Key; Supplier Part Number 1: MCP101T-450I/TT-ND; Supplier 2: Farnell; Supplier Part Number 2: 9758410RL; Supplier 3: Farnell; Supplier Part Number 3: 9758410; Supplier 4: Newark; Supplier Part Number 4: 96K3690; Supplier 5: Mouser; Supplier Part Number 5: 579-MCP101T-450I/TT; Mounting Technology: Surface Mount; Code_IPC: SOT23-3; ComponentLink1Description: Manufacturer URL; ComponentLink1URL: http://www.microchip.com/; ComponentLink2Description: Datasheet; ComponentLink2URL: http://ww1.microchip.com/downloads/en/DeviceDoc/11187f.pdf; ComponentLink3Description: Package Specification; ComponentLink3URL: http://www.microchip.com/stellent/groups/techpub_sg/documents/packagingspec/en012702.pdf
footprint SOT-23-TT3_N (SOT23, 3-Leads, Body 2.9x1.3mm, Pitch 0.95mm, Lead Span 2.4mm, IPC Medium Density)
footprint SOT-23-TT3_L (SOT23, 3-Leads, Body 2.9x1.3mm, Pitch 0.95mm, Lead Span 2.4mm, IPC High Density)
footprint SOT-23-TT3_M (SOT23, 3-Leads, Body 2.9x1.3mm, Pitch 0.95mm, Lead Span 2.4mm, IPC Low Density)
pins: 1 RST (out), 2 VDD (power), 3 VSS (power)

## MCP101T-460I/TT
designator U?
Microcontroller Supervisory Circuit with Push-Pull Output, 3-Pin SOT-23, Industrial Temperature, Tape and Reel; Manufacturer: Microchip; PartNumber: MCP101T-460I/TT; DatasheetVersion: revF, 2001; PackageVersion: revBB, Aug-2009; PackageReference: SOT-23-TT3; PackageDescription: 3-Lead Plastic Small Outline Transistor (TT) [SOT-23]; Supplier 1: Digi-Key; Supplier Part Number 1: MCP101T-460I/TT-ND; Supplier 2: Farnell; Supplier Part Number 2: 1863902; Supplier 3: Farnell; Supplier Part Number 3: 1863902RL; Supplier 4: Newark; Supplier Part Number 4: 23C2774; Supplier 5: Newark; Supplier Part Number 5: 31T1293; Supplier 6: Mouser; Supplier Part Number 6: 579-MCP101T-460I/TT; Mounting Technology: Surface Mount; Code_IPC: SOT23-3; ComponentLink1Description: Manufacturer URL; ComponentLink1URL: http://www.microchip.com/; ComponentLink2Description: Datasheet; ComponentLink2URL: http://ww1.microchip.com/downloads/en/DeviceDoc/11187f.pdf; ComponentLink3Description: Package Specification; ComponentLink3URL: http://www.microchip.com/stellent/groups/techpub_sg/documents/packagingspec/en012702.pdf
footprint SOT-23-TT3_N (SOT23, 3-Leads, Body 2.9x1.3mm, Pitch 0.95mm, Lead Span 2.4mm, IPC Medium Density)
footprint SOT-23-TT3_L (SOT23, 3-Leads, Body 2.9x1.3mm, Pitch 0.95mm, Lead Span 2.4mm, IPC High Density)
footprint SOT-23-TT3_M (SOT23, 3-Leads, Body 2.9x1.3mm, Pitch 0.95mm, Lead Span 2.4mm, IPC Low Density)
pins: 1 RST (out), 2 VDD (power), 3 VSS (power)

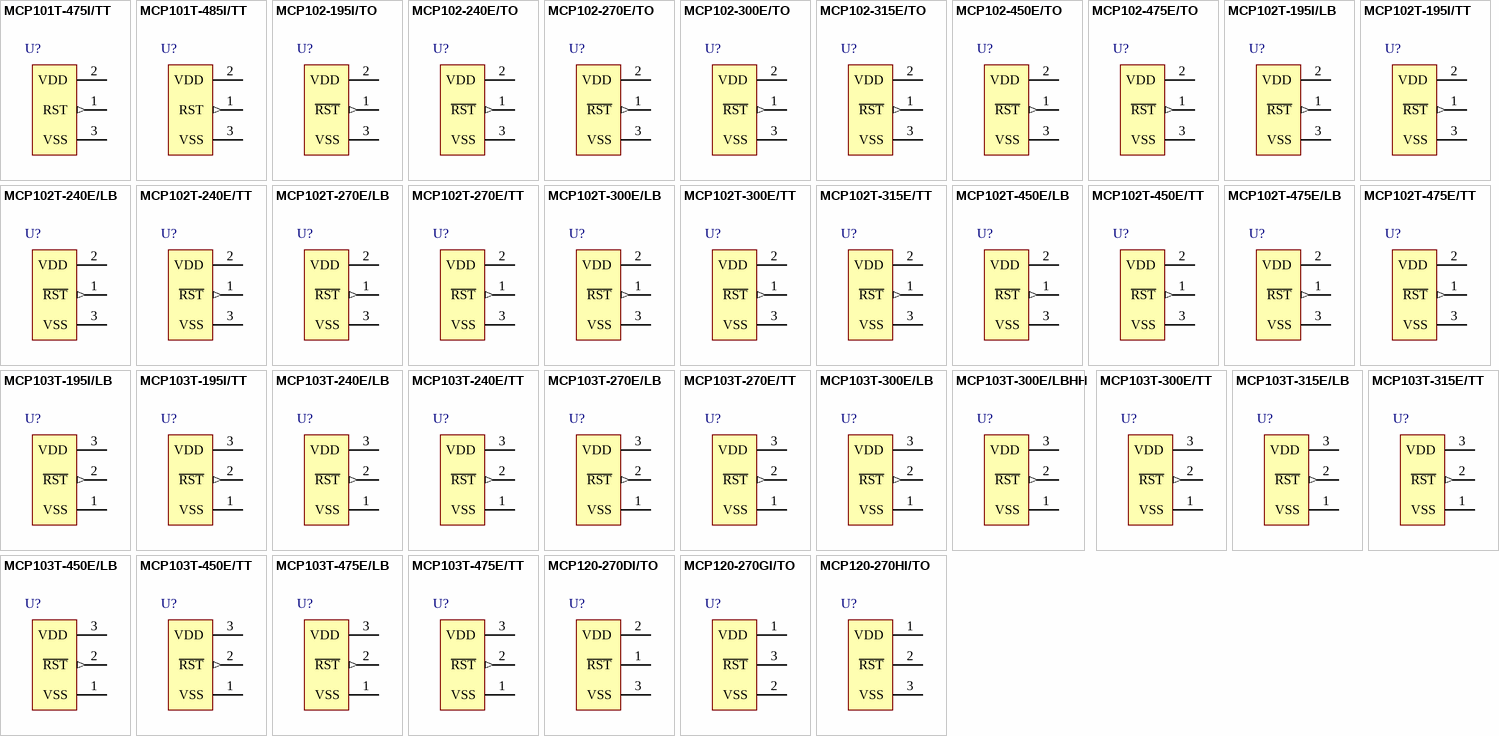
[diagram p1: symbols MCP101T-475I/TT to MCP120-270HI/TO]